# EAGLE library part SA*-C161CS (library micro-siemens)
16bit Low-Cost Microcontroller mit CAN
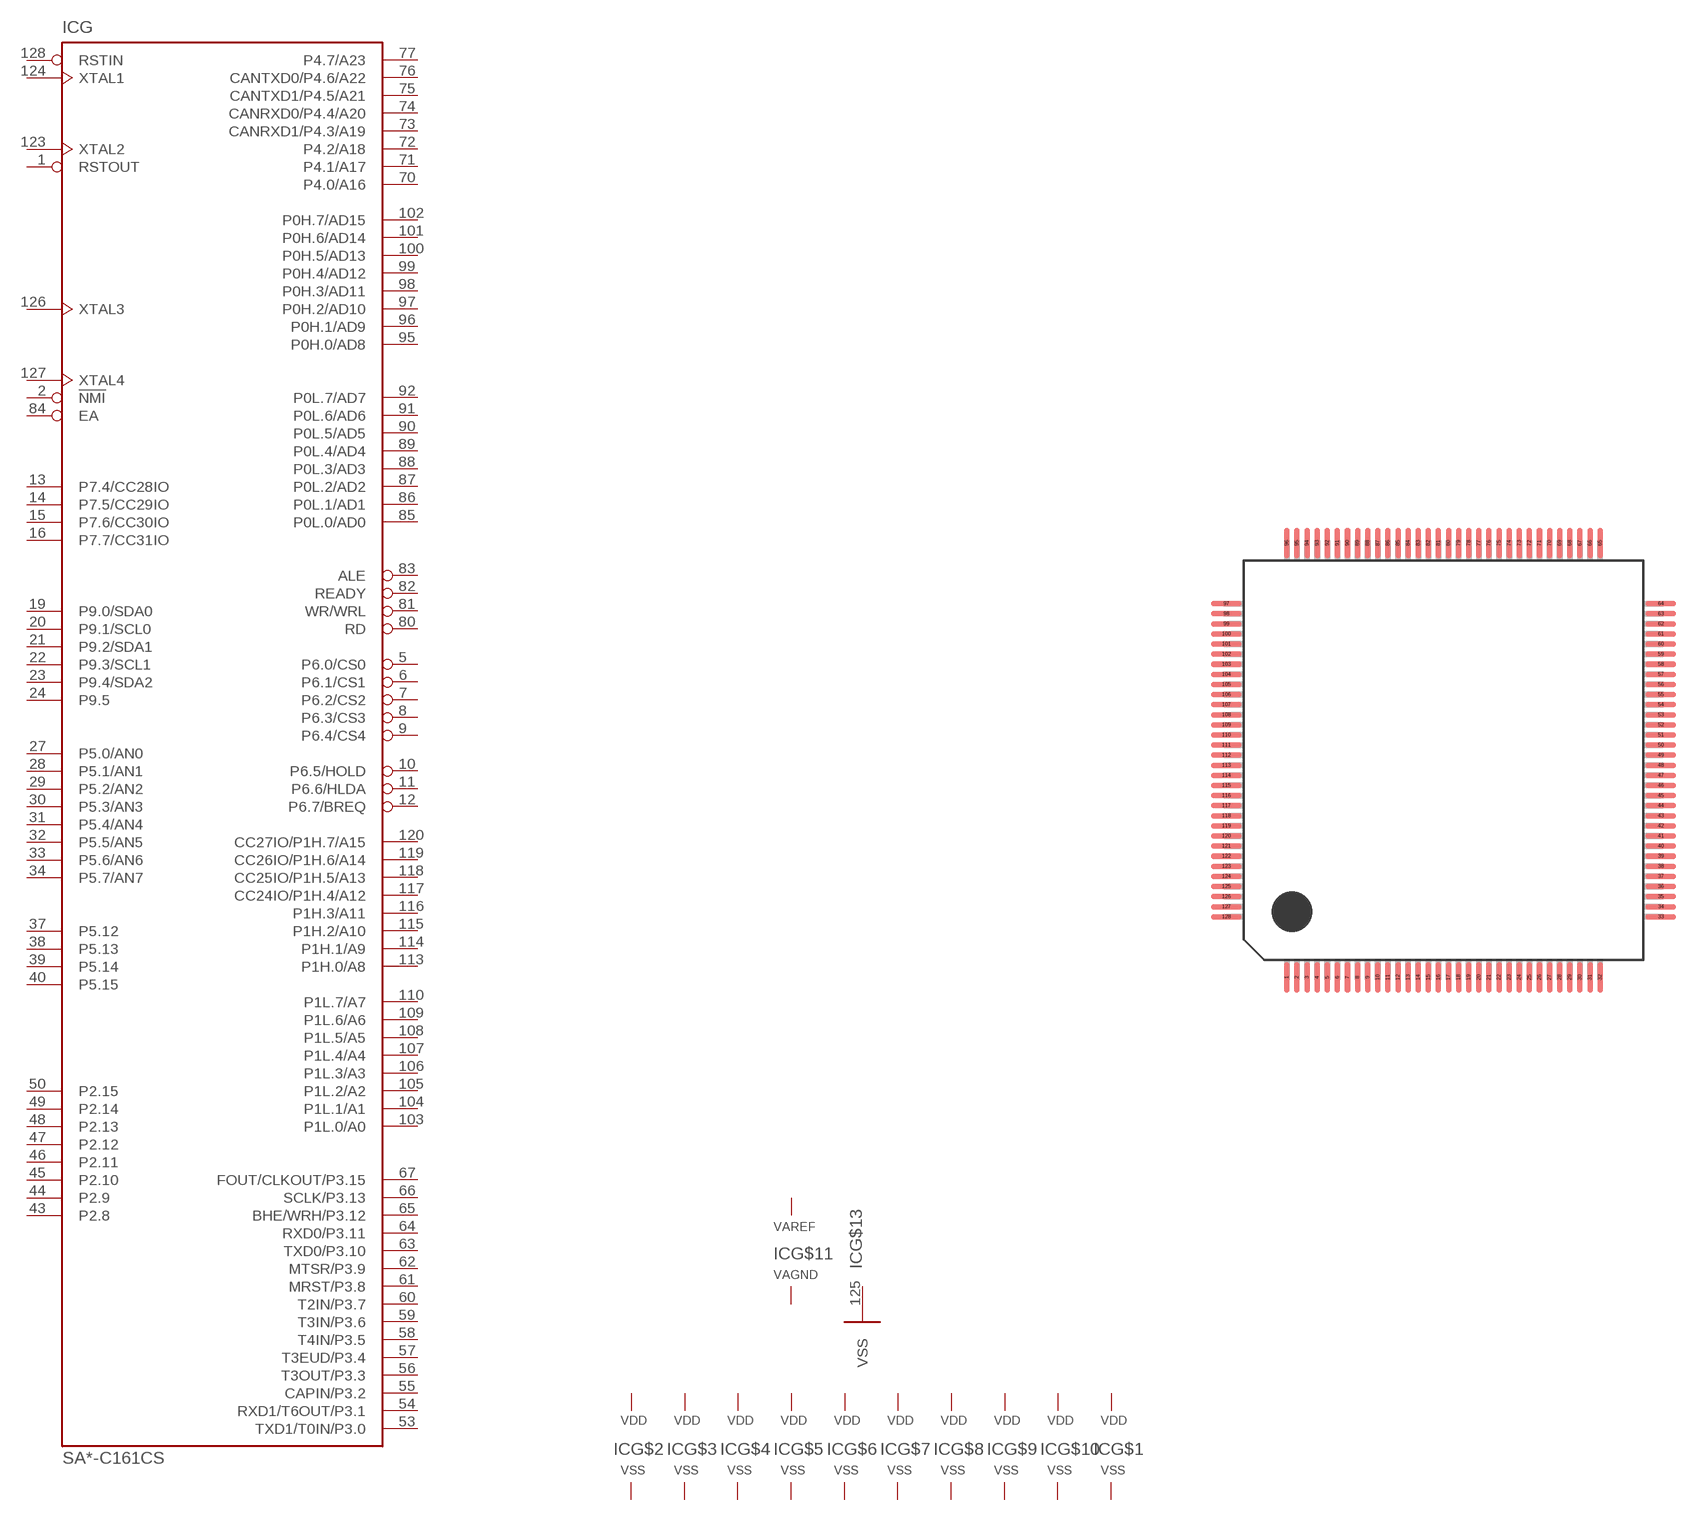
[diagram p50: symbol with the pads of P-TQFP-128; footprint P-TQFP-128]

Designator prefix IC; gates G=SABC161CS G$1=PWR G$2=PWR G$3=PWR G$4=PWR G$5=PWR G$6=PWR G$7=PWR G$8=PWR G$9=PWR G$10=PWR G$11=APWR G$13=VSS-1

## SAB-C161CSSMD (OC_FARNELL: unknown; OC_NEWARK: unknown), SAF-C161CSSMD (OC_FARNELL: unknown; OC_NEWARK: unknown), SAK-C161CSSMD (OC_FARNELL: 1472739; OC_NEWARK: unknown)  [P-TQFP-128]
1  G:RSTOUT  out
2  G:!NMI  in
3  G$2:VSS  pwr
4  G$2:VDD  pwr
5  G:P6.0/CS0  out
6  G:P6.1/CS1  out
7  G:P6.2/CS2  out
8  G:P6.3/CS3  out
9  G:P6.4/CS4  out
10  G:P6.5/HOLD  out
11  G:P6.6/HLDA  out
12  G:P6.7/BREQ  out
13  G:P7.4/CC28IO
14  G:P7.5/CC29IO
15  G:P7.6/CC30IO
16  G:P7.7/CC31IO
17  G$3:VSS  pwr
18  G$3:VDD  pwr
19  G:P9.0/SDA0
20  G:P9.1/SCL0
21  G:P9.2/SDA1
22  G:P9.3/SCL1
23  G:P9.4/SDA2
24  G:P9.5
25  G$4:VSS  pwr
26  G$4:VDD  pwr
27  G:P5.0/AN0  in
28  G:P5.1/AN1  in
29  G:P5.2/AN2  in
30  G:P5.3/AN3  in
31  G:P5.4/AN4  in
32  G:P5.5/AN5  in
33  G:P5.6/AN6  in
34  G:P5.7/AN7  in
35  G$11:VAREF  pwr
36  G$11:VAGND  pwr
37  G:P5.12  in
38  G:P5.13  in
39  G:P5.14  in
40  G:P5.15  in
41  G$5:VSS  pwr
42  G$5:VDD  pwr
43  G:P2.8  in
44  G:P2.9  in
45  G:P2.10  in
46  G:P2.11  in
47  G:P2.12  in
48  G:P2.13  in
49  G:P2.14  in
50  G:P2.15  in
51  G$6:VSS  pwr
52  G$6:VDD  pwr
53  G:TXD1/T0IN/P3.0  in
54  G:RXD1/T6OUT/P3.1  in
55  G:CAPIN/P3.2  in
56  G:T3OUT/P3.3  in
57  G:T3EUD/P3.4  in
58  G:T4IN/P3.5  in
59  G:T3IN/P3.6  in
60  G:T2IN/P3.7  in
61  G:MRST/P3.8  in
62  G:MTSR/P3.9  in
63  G:TXD0/P3.10  in
64  G:RXD0/P3.11  in
65  G:BHE/WRH/P3.12  in
66  G:SCLK/P3.13  in
67  G:FOUT/CLKOUT/P3.15  in
68  G$10:VDD  pwr
69  G$10:VSS  pwr
70  G:P4.0/A16
71  G:P4.1/A17
72  G:P4.2/A18
73  G:CANRXD1/P4.3/A19
74  G:CANRXD0/P4.4/A20
75  G:CANTXD1/P4.5/A21
76  G:CANTXD0/P4.6/A22
77  G:P4.7/A23
78  G$9:VDD  pwr
79  G$9:VSS  pwr
80  G:RD  out
81  G:WR/WRL  out
82  G:READY  out
83  G:ALE  out
84  G:EA  in
85  G:P0L.0/AD0
86  G:P0L.1/AD1
87  G:P0L.2/AD2
88  G:P0L.3/AD3
89  G:P0L.4/AD4
90  G:P0L.5/AD5
91  G:P0L.6/AD6
92  G:P0L.7/AD7
93  G$7:VDD  pwr
94  G$7:VSS  pwr
95  G:P0H.0/AD8
96  G:P0H.1/AD9
97  G:P0H.2/AD10
98  G:P0H.3/AD11
99  G:P0H.4/AD12
100  G:P0H.5/AD13
101  G:P0H.6/AD14
102  G:P0H.7/AD15
103  G:P1L.0/A0
104  G:P1L.1/A1
105  G:P1L.2/A2
106  G:P1L.3/A3
107  G:P1L.4/A4
108  G:P1L.5/A5
109  G:P1L.6/A6
110  G:P1L.7/A7
111  G$8:VDD  pwr
112  G$8:VSS  pwr
113  G:P1H.0/A8
114  G:P1H.1/A9
115  G:P1H.2/A10
116  G:P1H.3/A11
117  G:CC24IO/P1H.4/A12
118  G:CC25IO/P1H.5/A13
119  G:CC26IO/P1H.6/A14
120  G:CC27IO/P1H.7/A15
121  G$1:VDD  pwr
122  G$1:VSS  pwr
123  G:XTAL2
124  G:XTAL1
125  G$13:VSS  pwr
126  G:XTAL3
127  G:XTAL4
128  G:RSTIN

## Footprint P-TQFP-128 (pad centres in mm)
P-TQFP-128 with rounded pads
smd 0.27 x 1.5: 1 -6.48,-10.75; 2 -5.98,-10.75; 3 -5.48,-10.75; 4 -4.98,-10.75; 5 -4.48,-10.75; 6 -3.98,-10.75; 7 -3.48,-10.75; 8 -2.98,-10.75; 9 -2.48,-10.75; 10 -1.98,-10.75; 11 -1.48,-10.75; 12 -0.98,-10.75; 13 -0.48,-10.75; 14 0.02,-10.75; 15 0.52,-10.75; 16 1.02,-10.75; 17 1.52,-10.75; 18 2.02,-10.75; 19 2.52,-10.75; 20 3.02,-10.75; 21 3.52,-10.75; 22 4.02,-10.75; 23 4.52,-10.75; 24 5.02,-10.75; 25 5.52,-10.75; 26 6.02,-10.75; 27 6.52,-10.75; 28 7.02,-10.75; 29 7.52,-10.75; 30 8.02,-10.75; 31 8.52,-10.75; 32 9.02,-10.75; 65 9.02,10.75; 66 8.52,10.75; 67 8.02,10.75; 68 7.52,10.75; 69 7.02,10.75; 70 6.52,10.75; 71 6.02,10.75; 72 5.52,10.75; 73 5.02,10.75; 74 4.52,10.75; 75 4.02,10.75; 76 3.52,10.75; 77 3.02,10.75; 78 2.52,10.75; 79 2.02,10.75; 80 1.52,10.75; 81 1.02,10.75; 82 0.52,10.75; 83 0.02,10.75; 84 -0.48,10.75; 85 -0.98,10.75; 86 -1.48,10.75; 87 -1.98,10.75; 88 -2.48,10.75; 89 -2.98,10.75; 90 -3.48,10.75; 91 -3.98,10.75; 92 -4.48,10.75; 93 -4.98,10.75; 94 -5.48,10.75; 95 -5.98,10.75; 96 -6.48,10.75
smd 1.5 x 0.27: 33 12.02,-7.75; 34 12.02,-7.25; 35 12.02,-6.75; 36 12.02,-6.25; 37 12.02,-5.75; 38 12.02,-5.25; 39 12.02,-4.75; 40 12.02,-4.25; 41 12.02,-3.75; 42 12.02,-3.25; 43 12.02,-2.75; 44 12.02,-2.25; 45 12.02,-1.75; 46 12.02,-1.25; 47 12.02,-0.75; 48 12.02,-0.25; 49 12.02,0.25; 50 12.02,0.75; 51 12.02,1.25; 52 12.02,1.75; 53 12.02,2.25; 54 12.02,2.75; 55 12.02,3.25; 56 12.02,3.75; 57 12.02,4.25; 58 12.02,4.75; 59 12.02,5.25; 60 12.02,5.75; 61 12.02,6.25; 62 12.02,6.75; 63 12.02,7.25; 64 12.02,7.75; 97 -9.48,7.75; 98 -9.48,7.25; 99 -9.48,6.75; 100 -9.48,6.25; 101 -9.48,5.75; 102 -9.48,5.25; 103 -9.48,4.75; 104 -9.48,4.25; 105 -9.48,3.75; 106 -9.48,3.25; 107 -9.48,2.75; 108 -9.48,2.25; 109 -9.48,1.75; 110 -9.48,1.25; 111 -9.48,0.75; 112 -9.48,0.25; 113 -9.48,-0.25; 114 -9.48,-0.75; 115 -9.48,-1.25; 116 -9.48,-1.75; 117 -9.48,-2.25; 118 -9.48,-2.75; 119 -9.48,-3.25; 120 -9.48,-3.75; 121 -9.48,-4.25; 122 -9.48,-4.75; 123 -9.48,-5.25; 124 -9.48,-5.75; 125 -9.48,-6.25; 126 -9.48,-6.75; 127 -9.48,-7.25; 128 -9.48,-7.75